# Altium footprint library ISO.PcbLib: 48 footprints (part 3 of 3)
Each footprint in its own frame and in the unit in brackets; x right, y up, seen from the top. Pads: shape width x height; smd on the part's side, far side on the other; paste and mask are expansions set on the pad; w line width, h text height; cw(c..) or ccw(c..) is an arc to the next point about the centre after c.
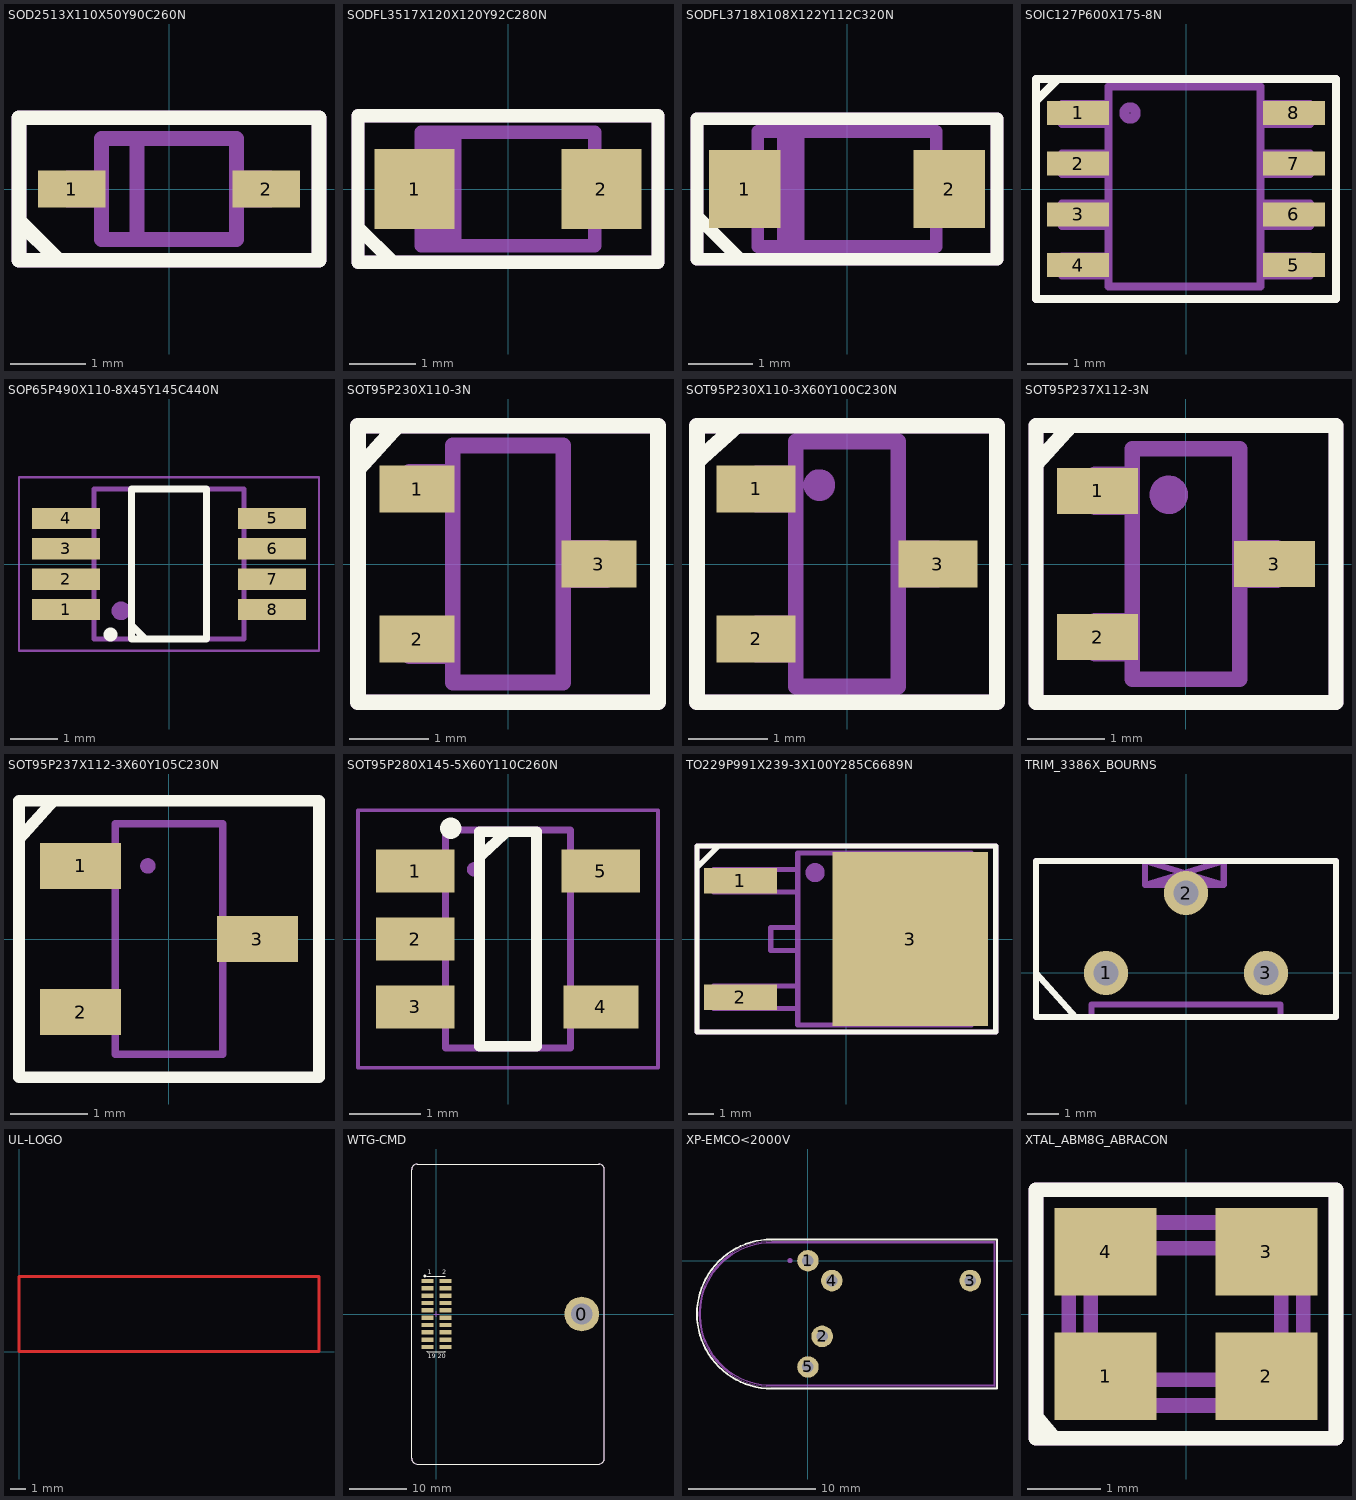
[diagram p2: the footprints below, top view; thin cyan lines are the x and y axes]

## SOD2513X110X50Y90C260N [mm] "SOD323 Body 1.8 x 1.3mm height 1.1mm"
height 1.1
pads (2):
  rect 0.9x0.5 smd: 1(-1.3,0) 2(1.3,0)
Top Overlay:
  lines w0.2: -2,-0.4 -2,-0.425 -1.475,-0.95 ; -2,-0.95 -2,0.95 2,0.95 2,-0.95 -2,-0.95
Mechanical 11:
  text ".designator" at -2,1.3 h0.6
Mechanical 13:
  lines w0.2: -0.9,-0.15 -1.35,-0.15 -1.35,0.15 -0.9,0.15 ; -0.425,-0.675 -0.425,0.675 ; 0.9,-0.15 1.35,-0.15 1.35,0.15 0.9,0.15 ; -0.9,-0.675 -0.9,0.675 0.9,0.675 0.9,-0.675 -0.9,-0.675
Mechanical 15:
  lines w0.2: -2,-0.95 -2,0.95 2,0.95 2,-0.95 -2,-0.95
3D body: height 1.1, standoff 0, extent -1.999,-0.949 1.999,0.949

## SODFL3517X120X120Y92C280N [mm] "SODFL, 2-Leads, Body 3.7x1.9mm (max), IPC Medium Density"
height 1.1
pads (2):
  rect 1.2x1.2 smd: 1(-1.4,0) 2(1.4,0)
Top Overlay:
  lines w0.2: -2.229,-0.594 -1.725,-1.1 ; -2.25,-1.1 2.25,-1.1 2.25,1.1 -2.25,1.1 -2.25,-1.1
Mechanical 11:
  text ".Designator" at 4.25,0 h0.6
Mechanical 13:
  rectangle: -1.3,-0.85 -0.7,0.85
  lines w0.2: -1.3,-0.45 -1.75,-0.45 -1.75,0.45 -1.3,0.45 ; 1.3,-0.45 1.75,-0.45 1.75,0.45 1.3,0.45 ; -1.3,-0.85 -1.3,0.85 1.3,0.85 1.3,-0.85 -1.3,-0.85
Mechanical 15:
  lines w0.2: -2.25,-1.1 -2.25,1.1 2.25,1.1 2.25,-1.1 -2.25,-1.1
3D body: height 1.1, standoff 0, extent -2.249,-1.099 2.249,1.099

## SODFL3718X108X122Y112C320N [mm] "SODFL Diode;2.80mm W X 1.80mm L X 1.08mm H body"
height 1.08
pads (2):
  rect 1.12x1.22 smd: 1(-1.6,0) 2(1.6,0)
Top Overlay:
  lines w0.2: -2.325,-0.45 -1.675,-1.1 ; -2.35,-1.1 2.35,-1.1 2.35,1.1 -2.35,1.1 -2.35,-1.1
Mechanical 11:
  text ".designator" at -2.3,1.4 h0.6
Mechanical 13:
  rectangle: -1.1,-0.9 -0.665,0.9
  lines w0.2: -1.4,-0.5 -1.85,-0.5 -1.85,0.5 -1.4,0.5 ; 1.3,0.9 1.4,0.9 ; 1.4,-0.6 1.4,-0.9 ; 1.4,-0.5 1.85,-0.5 1.85,0.5 1.4,0.5 ; 1.4,-0.9 -1.4,-0.9 -1.4,0.9 1.4,0.9 ; 1.4,-0.9 1.4,0.9
Mechanical 15:
  lines w0.2: -2.35,-1.1 2.35,-1.1 2.35,1.1 -2.35,1.1 -2.35,-1.1
3D body: height 1.08, standoff 0, extent -2.349,-1.099 2.349,1.099

## SOIC127P600X175-8N [mm] "SOIC, 8-Leads, Body .5x4mm (max), Pitch 1.27mm, IPC Medium Density"
height 1.75
pads (8):
  rect 1.55x0.6 smd: 1(-2.7,1.905) 2(-2.7,0.635) 3(-2.7,-0.635) 4(-2.7,-1.905) 5(2.7,-1.905) 6(2.7,-0.635) 7(2.7,0.635) 8(2.7,1.905)
Top Overlay:
  lines w0.2: -3.75,2.2 -3.2,2.75 ; -3.75,-2.75 3.75,-2.75 3.75,2.75 -3.75,2.75 -3.75,-2.75 ; -3.75,2.1 -3.75,2.1
Mechanical 11:
  text ".Designator" at -0.5,1.5 h0.6
Mechanical 13:
  circle w0.254: c-1.4,1.9 r0.141
  lines w0.2: -2.35,-2.165 -2.35,-1.682 ; -2.35,-0.92 -2.35,-0.412 ; -2.35,0.375 -2.35,0.883 ; -2.35,1.62 -2.35,2.128 -2.35,1.645 ; -1.969,-2.165 -3.1,-2.165 -3.1,-1.682 -1.969,-1.682 ; -1.969,-0.92 -3.1,-0.92 -3.1,-0.362 -1.969,-0.362 ; -1.969,0.375 -3.1,0.375 -3.1,0.883 -1.969,0.883 ; -1.969,1.62 -3.1,1.62 -3.1,2.128 -1.969,2.128 ; 1.867,-2.2 1.902,-2.165 3.1,-2.165 3.1,-1.682 1.885,-1.682 1.867,-1.7 ; 1.867,-0.9 1.887,-0.92 3.1,-0.92 3.1,-0.362 1.905,-0.362 1.867,-0.4 ; 1.867,0.4 1.892,0.375 3.1,0.375 3.1,0.883 1.884,0.883 1.867,0.9 ; 1.867,1.6 1.887,1.62 3.1,1.62 3.1,2.128 1.895,2.128 1.867,2.1 ; 2.35,-2.165 2.35,-1.682 ; 2.35,-0.92 2.35,-0.412 ; 2.35,0.375 2.35,0.883 ; 2.35,1.62 2.35,2.128 2.35,1.645 ; -1.943,-2.443 -1.943,2.561 1.867,2.561 1.867,-2.443 -1.943,-2.443
Mechanical 15:
  lines w0.2: -3.75,-2.75 3.75,-2.75 3.75,2.75 -3.75,2.75 -3.75,-2.75
3D body: height 1.75, standoff 0, extent -3.749,-2.749 3.749,2.749

## SOP65P490X110-8X45Y145C440N [mm] "SOP,0.65mm pitch;8 pin,3.20mm W X 3.20mm L X 1.10mm H body"
height 1.1
pads (8):
  rect 1.45x0.45 smd: 1(-2.2,-0.975) 2(-2.2,-0.325) 3(-2.2,0.325) 4(-2.2,0.975) 5(2.2,0.975) 6(2.2,0.325) 7(2.2,-0.325) 8(2.2,-0.975)
Top Overlay:
  lines w0.15: -0.8,-1.3 -0.5,-1.6 ; -0.8,-1.6 -0.8,1.6 0.8,1.6 0.8,-1.6 -0.8,-1.6
  lines w0.3: -1.25,-1.5 -1.25,-1.5
Mechanical 11:
  text ".designator" at -0.75,0.325 h0.8
Mechanical 13:
  circle w0.2: c-1.025,-1 r0.1
  lines w0.1: -1.6,-1.125 -2.45,-1.125 -2.45,-0.825 -1.6,-0.825 ; -1.6,-0.475 -2.45,-0.475 -2.45,-0.175 -1.6,-0.175 ; -1.6,0.175 -2.45,0.175 -2.45,0.475 -1.6,0.475 ; -1.6,0.825 -2.45,0.825 -2.45,1.125 -1.6,1.125 ; 1.6,-1.125 2.45,-1.125 2.45,-0.825 1.6,-0.825 ; 1.6,-0.475 2.45,-0.475 2.45,-0.175 1.6,-0.175 ; 1.6,0.175 2.45,0.175 2.45,0.475 1.6,0.475 ; 1.6,0.825 2.45,0.825 2.45,1.125 1.6,1.125 ; -1.6,-1.6 -1.6,1.6 1.6,1.6 1.6,-1.6 -1.6,-1.6
Mechanical 15:
  lines w0.05: -3.2,-1.85 -3.2,1.85 3.2,1.85 3.2,-1.85 -3.2,-1.85
3D body: height 0.05, standoff 0, extent -3.2,-1.85 3.199,1.849
3D body "User Library-msop-8.STEP": height 1.15, standoff 0, extent -2.451,-1.501 2.449,1.499

## SOT95P230X110-3N [mm] "SOT23, 3-Leads, Body 3.0 x1.4mm, Pitch 0.95mm, Lead Span 2.5mm, IPC Medium Density"
height 1.1
pads (3):
  rect 0.95x0.6 smd: 1(-1.15,0.95) 2(-1.15,-0.95) 3(1.15,0)
Top Overlay:
  lines w0.2: -1.9,1.2 -1.4,1.75 ; -1.546,1.75 -1.473,1.75 ; -1.9,-1.75 1.9,-1.75 1.9,1.75 -1.9,1.75 -1.9,-1.75
Mechanical 11:
  text ".Designator" at -1.9,2.1 h0.6
Mechanical 13:
  lines w0.2: -0.762,0.762 -1.25,0.762 -1.25,1.168 -0.732,1.168 ; -0.738,-0.762 -1.25,-0.762 -1.25,-1.168 -0.732,-1.168 ; 0.703,-0.203 1.25,-0.203 1.25,0.203 0.703,0.203 ; -0.7,-1.5 0.7,-1.5 0.7,1.5 -0.7,1.5 -0.7,-1.5
Mechanical 15:
  lines w0.2: -1.9,-1.75 1.9,-1.75 1.9,1.75 -1.9,1.75 -1.9,-1.75
3D body: height 1.1, standoff 0, extent -1.899,-1.749 1.899,1.749

## SOT95P230X110-3X60Y100C230N [mm] "SOT23, 3-Leads, Body 3.1x2.6mm (max), Pitch 0.95mm, IPC Medium Density"
height 1.1
pads (3):
  rect 1x0.6 smd: 1(-1.15,0.95) 2(-1.15,-0.95) 3(1.15,0)
Top Overlay:
  lines w0.2: -1.9,1.3 -1.4,1.75 ; -1.9,-1.75 -1.9,1.75 1.9,1.75 1.9,-1.75 -1.9,-1.75
Mechanical 11:
  text ".Designator" at -1.9,2.1 h0.6
Mechanical 13:
  circle w0.3: c-0.35,1 r0.05
  lines w0.2: -0.65,-1.15 -1.15,-1.15 -1.15,-0.75 -0.65,-0.75 ; -0.65,0.75 -1.15,0.75 -1.15,1.15 -0.65,1.15 ; 0.65,-0.2 1.15,-0.2 1.15,0.2 0.65,0.2 ; -0.65,-1.55 0.65,-1.55 0.65,1.55 -0.65,1.55 -0.65,-1.55
Mechanical 15:
  lines w0.2: -1.9,-1.75 1.9,-1.75 1.9,1.75 -1.9,1.75 -1.9,-1.75
3D body: height 1.1, standoff 0, extent -1.899,-1.749 1.899,1.749

## SOT95P237X112-3N [mm] "SOT,0.95mm pitch;3 pin,1.40mm W X 3.04mm L X 1.12mm H"
height 1.12
pads (3):
  rect 1.05x0.6 smd: 1(-1.15,0.95) 2(-1.15,-0.95) 3(1.15,0)
Top Overlay:
  lines w0.2: -1.95,1.3 -1.5,1.8 ; -1.95,-1.8 -1.95,1.8 1.95,1.8 1.95,-1.8 -1.95,-1.8
Mechanical 11:
  text ".designator" at -1.9,2.1 h0.6
Mechanical 13:
  circle w0.25: c-0.225,0.9 r0.125
  lines w0.2: -0.7,-1.165 -1.185,-1.165 -1.185,-0.735 -0.7,-0.735 ; -0.7,0.735 -1.185,0.735 -1.185,1.165 -0.7,1.165 ; 0.7,-0.215 1.185,-0.215 1.185,0.215 0.7,0.215 ; -0.7,-1.5 -0.7,1.5 0.7,1.5 0.7,-1.5 -0.7,-1.5
Mechanical 15:
  lines w0.2: -1.95,-1.8 -1.95,1.8 1.95,1.8 1.95,-1.8 -1.95,-1.8
3D body: height 1.12, standoff 0, extent -1.949,-1.799 1.949,1.799

## SOT95P237X112-3X60Y105C230N [mm] "SOT,0.95mm pitch;3 pin,1.40mm W X 3.04mm L X 1.12mm H"
height 1.12
pads (3):
  rect 1.05x0.6 smd: 1(-1.15,0.95) 2(-1.15,-0.95) 3(1.15,0)
Top Overlay:
  lines w0.15: -1.95,1.3 -1.5,1.8 ; -1.95,-1.8 1.95,-1.8 1.95,1.8 -1.95,1.8 -1.95,-1.8
Mechanical 11:
  text ".designator" at 0.25,-1.25 h0.6
Mechanical 13:
  circle w0.1: c-0.275,0.95 r0.05
  lines w0.1: -0.7,-1.165 -1.185,-1.165 -1.185,-0.735 -0.7,-0.735 ; -0.7,0.735 -1.185,0.735 -1.185,1.165 -0.7,1.165 ; 0.7,-0.215 1.185,-0.215 1.185,0.215 0.7,0.215 ; -0.7,-1.5 0.7,-1.5 0.7,1.5 -0.7,1.5 -0.7,-1.5
Mechanical 15:
  lines w0.05: -1.95,-1.8 1.95,-1.8 1.95,1.8 -1.95,1.8 -1.95,-1.8
3D body: height 0.05, standoff 0, extent -1.949,-1.799 1.949,1.799
3D body "SOT-23.step": height 1.09, standoff -0.01, extent -1.25,-1.5 1.25,1.5

## SOT95P280X145-5X60Y110C260N [mm] "SOT23, 5-Leads, Body 3.0x3.0mm (max), Pitch 0.95mm, IPC Medium Density"
height 1.45
pads (5):
  rect 1.1x0.6 smd: 1(-1.3,0.95) 2(-1.3,0) 3(-1.3,-0.95) 5(1.3,0.95)
  rect 1.05x0.6 smd: 4(1.3,-0.95)
Top Overlay:
  lines w0.15: -0.361,1.182 -0.06,1.46 ; -0.4,-1.5 -0.4,1.5 0.4,1.5 0.4,-1.5 -0.4,-1.5
  lines w0.3: -0.8,1.55 -0.8,1.55
Mechanical 11:
  text ".designator" at -0.825,1.725 h0.6
Mechanical 13:
  circle w0.1: c-0.475,0.975 r0.05
  lines w0.1: -0.875,-1.1 -1.5,-1.1 -1.5,-0.8 -0.875,-0.8 ; -0.875,-0.15 -1.5,-0.15 -1.5,0.15 -0.875,0.15 ; -0.875,0.8 -1.5,0.8 -1.5,1.1 -0.875,1.1 ; 0.875,-1.1 1.5,-1.1 1.5,-0.8 0.875,-0.8 ; 0.875,0.8 1.5,0.8 1.5,1.1 0.875,1.1 ; -0.875,-1.525 -0.875,1.525 0.875,1.525 0.875,-1.525 -0.875,-1.525
Mechanical 15:
  lines w0.05: -2.1,-1.8 -2.1,1.8 2.1,1.8 2.1,-1.8 -2.1,-1.8
3D body: height 0.05, standoff 0, extent -2.1,-1.8 2.099,1.799
3D body "User Library-SOT23-5-2.STEP": height 1.45, standoff 0, extent -1.4,-1.45 1.4,1.45

## TO229P991X239-3X100Y285C6689N [mm] "TO,2.54mm pitch;2 pin,10.10mm W X 9.40mm L X 4.83mm H"
height 2.39
pads (3):
  rect 2.85x1 smd: 1(-4.15,2.29) 2(-4.15,-2.29)
  rect 6.1x6.8 smd: 3(2.5,0)
Top Overlay:
  lines w0.2: -5.85,2.8 -5.05,3.6 ; -5.85,-3.65 5.85,-3.65 5.85,3.65 -5.85,3.65 -5.85,-3.65
Mechanical 11:
  text ".designator" at 0.75,1.25 h0.6
Mechanical 13:
  circle w0.5: c-1.225,2.6 r0.125
  lines w0.2: -1.905,-2.725 -5.205,-2.725 -5.205,-1.835 -1.905,-1.835 ; -1.905,-0.445 -2.96,-0.445 -2.96,0.445 -1.905,0.445 ; -1.905,1.835 -5.205,1.835 -5.205,2.725 -1.905,2.725 ; 4.2,-3.365 4.902,-3.365 5.205,-3 5.205,3 4.902,3.365 4.2,3.365 ; -1.905,-3.365 -1.905,3.365 4.315,3.365 4.315,-3.365 -1.905,-3.365
Mechanical 15:
  lines w0.2: -5.85,-3.65 -5.85,3.65 5.85,3.65 5.85,-3.65 -5.85,-3.65
3D body: height 2.39, standoff 0, extent -5.849,-3.649 5.849,3.649

## TRIM_3386X_BOURNS [mm] "3386 3/8 SQUARE TRIM POTMETER"
height 9.53
pads (3):
  round 1.4 hole 0.8: 1(-2.54,0) 2(0,2.54) 3(2.54,0)
Top Overlay:
  lines w0.2: -4.765,0 -3.5,-1.4 ; -4.765,-1.4 -4.765,3.56 4.765,3.56 4.765,-1.4 -4.765,-1.4
Mechanical 11:
  text ".designator" at -4.8,3.9 h0.6
Mechanical 13:
  lines w0.2: -4.765,1.27 -4.765,1.435 ; -1.3,2.8 1.2,3.56 1.2,2.8 ; -1.3,2.8 1.2,2.8 ; -1.3,2.8 -1.3,3.56 1.2,2.8 ; -4.765,-1.4 -4.765,3.56 4.765,3.56 4.765,-1.4 3,-1.4 3,-1 -3,-1 -3,-1.4 -4.765,-1.4
Mechanical 15:
  lines w0.2: -4.765,-1.4 -4.765,3.56 4.765,3.56 4.765,-1.4 -4.765,-1.4
3D body: height 9.53, standoff 0, extent -4.764,-1.399 4.764,3.559

## UL-LOGO [mm] "standaard ul-logo 20 X 5 mm"
Top Layer:
  lines w0.2: 0,0 0,5 20,5 20,0 0,0
  text "UL-LOGO" at 4,1.5 h2
Mechanical 13:
  text ".Designator" at 0,0 h0

## WTG-CMD [mm]
pads (21):
  round 6 / inner round 0 / far side round 0 hole 3.7 unplated paste-403.566: 0(25.2,0)
  rect 2.1x0.75 smd: 1(-1.55,5.715) 2(1.55,5.715) 3(-1.55,4.445) 4(1.55,4.445) 5(-1.55,3.175) 6(1.55,3.175) 7(-1.55,1.905) 8(1.55,1.905) 9(-1.55,0.635) 10(1.55,0.635) 11(-1.55,-0.635) 12(1.55,-0.635) 13(-1.55,-1.905) 14(1.55,-1.905) 15(-1.55,-3.175) 16(1.55,-3.175) 17(-1.55,-4.445) 18(1.55,-4.445) 19(-1.55,-5.715) 20(1.55,-5.715)
Top Overlay:
  circle w0.25: c-2,6.6 r0.125
  lines w0.2: -1.55,-6.425 -1.55,-6.55 1.55,-6.55 1.55,-6.425 ; -1.55,6.425 -1.55,6.55 1.55,6.55 1.55,6.425 ; 28.126,-26 ccw(c28.126,-25) 29.126,-25 29.126,25 ccw(c28.126,25) 28.126,26 ; 28.194,-26 -3.3,-26 cw(c-3.3,-25) -4.3,-25 -4.3,25 cw(c-3.3,25) -3.3,26 28.194,26
  text "1" at -1.5,6.9 h0.8
  text "2" at 1,6.9 h0.8
  text "19" at -1.5,-7.7 h0.8
  text "20" at 0.2,-7.7 h0.8
Top Paste:
  region: 28.139,-0.25 28.123,-0.463 28.014,-0.914 27.837,-1.343 27.594,-1.739 27.292,-2.092 26.939,-2.394 26.543,-2.637 26.114,-2.814 25.663,-2.923 25.45,-2.939 25.45,-1.883 25.45,-1.885 25.572,-1.873 25.931,-1.764 26.261,-1.587 26.55,-1.35 26.787,-1.061 26.964,-0.731 27.073,-0.372 27.085,-0.25 27.083,-0.25
  region: 24.95,-2.939 24.737,-2.923 24.286,-2.814 23.857,-2.637 23.461,-2.394 23.108,-2.092 22.806,-1.739 22.563,-1.343 22.386,-0.914 22.277,-0.463 22.261,-0.25 23.317,-0.25 23.315,-0.25 23.327,-0.372 23.436,-0.731 23.613,-1.061 23.85,-1.35 24.139,-1.587 24.469,-1.764 24.828,-1.873 24.95,-1.885 24.95,-1.883
  region: 22.261,0.25 22.277,0.463 22.386,0.914 22.563,1.343 22.806,1.739 23.108,2.092 23.461,2.394 23.857,2.637 24.286,2.814 24.737,2.923 24.95,2.939 24.95,1.883 24.95,1.885 24.828,1.873 24.469,1.764 24.139,1.587 23.85,1.35 23.613,1.061 23.436,0.731 23.327,0.372 23.315,0.25 23.317,0.25
  region: 25.45,2.939 25.663,2.923 26.114,2.814 26.543,2.637 26.939,2.394 27.292,2.092 27.594,1.739 27.837,1.343 28.014,0.914 28.123,0.463 28.139,0.25 27.083,0.25 27.085,0.25 27.073,0.372 26.964,0.731 26.787,1.061 26.55,1.35 26.261,1.587 25.931,1.764 25.572,1.873 25.45,1.885 25.45,1.883
Mechanical 13:
  circle w0.15: c25.2,0 r2.55
Mechanical 15:
  lines w0.1: -3.427,-26 28.321,-26 ; -3.3,-26 cw(c-3.3,-25) -4.3,-25 -4.3,25 cw(c-3.3,25) -3.3,26 28.194,26 ; -0.5,0 0.5,0 ; 0,-0.5 0,0.5 ; 24.7,0 25.7,0 ; 25.2,-0.5 25.2,0.5 ; 28.126,-26 ccw(c28.126,-25) 29.126,-25 29.126,25 ccw(c28.126,25) 28.126,26
3D body "9774060151.stp": height 6.01, standoff -1.39, extent 22.65,-2.546 27.75,2.546
3D body "62302021021.stp": height 4.5, standoff 0, extent -2.4,-6.55 2.4,6.55

## XP-EMCO<2000V [mm] "5 Leads; Body 23.37x 11.43mm (LxW typ);"
height 6.35
pads (5):
  round 1.7 hole 0.9: 1(0,0) 2(1.12,-5.97) 3(12.8,-1.57) 4(1.88,-1.57) 5(0,-8.38)
Top Overlay:
  lines w0.15: -2.87,-10.086 cw(c-2.87,-4.206) -2.87,1.674 ; -2.863,1.676 14.91,1.676 14.91,-10.086 -2.827,-10.086
Mechanical 11:
  text ".designator" at -2.5,-3.88 h0.6
Mechanical 13:
  circle w0.2: c-1.415,0 r0.1
  lines w0.1: -2.87,-9.836 cw(c-2.87,-4.206) -2.87,1.424 ; -2.87,1.422 14.707,1.422 14.707,-9.837 -2.845,-9.837
Mechanical 15:
  lines w0.05: -2.87,-9.936 cw(c-2.87,-4.206) -2.87,1.524 14.783,1.524 14.783,-9.931 -2.87,-9.931
3D body: height 0.05, standoff 0, extent -2.579,-1.499 9.399,4.999

## XTAL_ABM8G_ABRACON [mm] "QUARTS CRYSTAL 3.2 X 2.5 mm height 1.0mm"
height 1
pads (4):
  rect 1.4x1.2 smd: 1(-1.1,-0.85) 2(1.1,-0.85) 3(1.1,0.85) 4(-1.1,0.85)
Top Overlay:
  lines w0.2: -2.05,-1.4 -1.8,-1.7 ; -2.05,-1.7 2.05,-1.7 2.05,1.7 -2.05,1.7 -2.05,-1.7
Mechanical 11:
  text ".designator" at -2.05,1.7 h0.6
Mechanical 13:
  circle w0.2: c-0.9,-0.5 r0.1
  lines w0.2: -1.3,0.5 cw(c-0.85,0.45) -0.8,0.9 ; -1.3,0.5 cw(c-0.85,0.45) -0.8,0.9 ; -1.3,0.5 -1.3,-0.5 ccw(c-0.85,-0.45) -0.8,-0.9 0.8,-0.9 ccw(c0.85,-0.45) 1.3,-0.5 1.3,0.5 ccw(c0.85,0.45) 0.8,0.9 -0.8,0.9 ; -1.6,-0.9 cw(c-1.6,-1.2) -1.304,-1.249 1.304,-1.25 cw(c1.6,-1.2) 1.6,-0.9 1.6,0.9 cw(c1.6,1.2) 1.304,1.249 -1.304,1.25 cw(c-1.6,1.2) -1.6,0.9 -1.6,-0.9
Mechanical 15:
  lines w0.2: -2.05,-1.7 -2.05,1.7 2.05,1.7 2.05,-1.7 -2.05,-1.7
3D body: height 1, standoff 0, extent -2.049,-1.699 2.049,1.699